# Altium footprint library VESC_6.4.PcbLib: 30 footprints (part 2 of 2)
Each footprint in its own frame and in the unit in brackets; x right, y up, seen from the top. Pads: shape width x height; smd on the part's side, far side on the other; paste and mask are expansions set on the pad; w line width, h text height; cw(c..) or ccw(c..) is an arc to the next point about the centre after c.
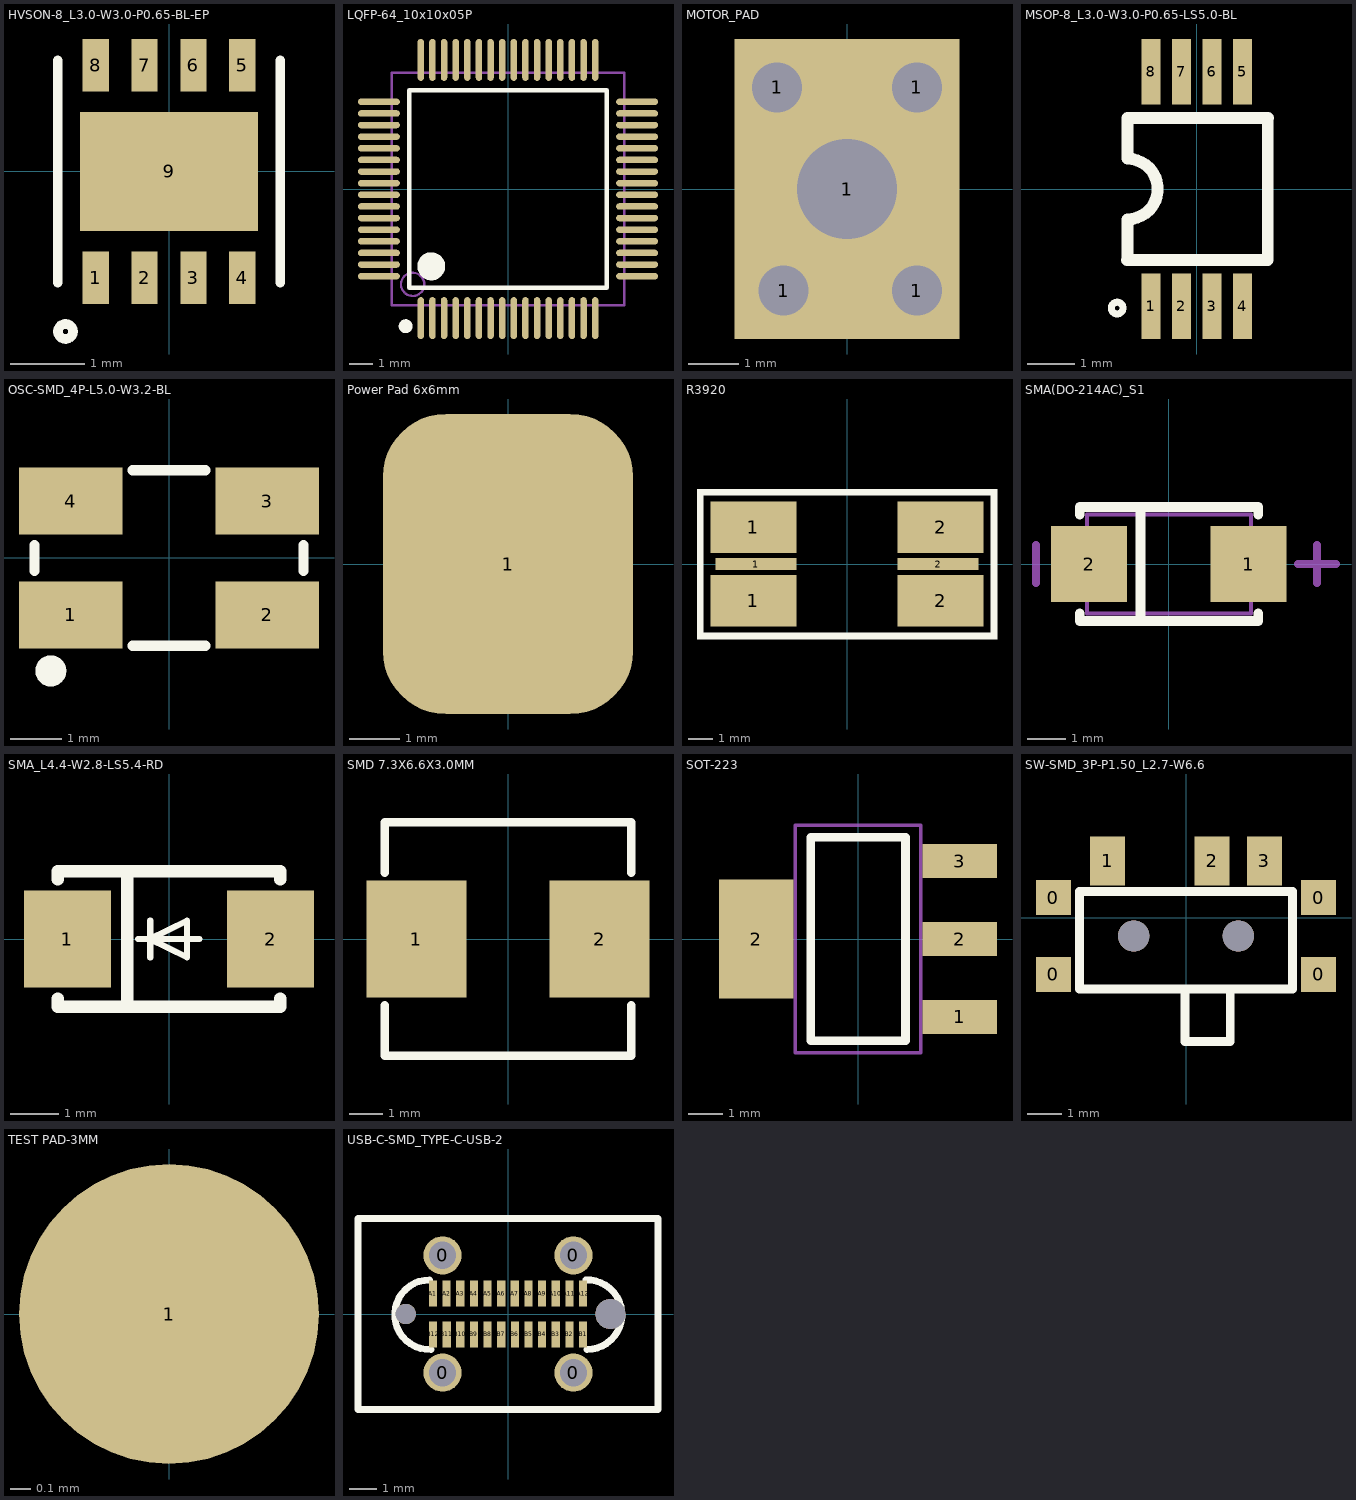
[diagram p1: the footprints below, top view; thin cyan lines are the x and y axes]

## HVSON-8_L3.0-W3.0-P0.65-BL-EP [mil]
pads (9):
  rect 14x28 smd: 1(-39,-56.4) 2(-13,-56.4) 3(13,-56.4) 4(39,-56.4) 5(39,56.4) 6(13,56.4) 7(-13,56.4) 8(-39,56.4)
  rect 94.49x62.99 smd: 9(0,0)
Top Overlay:
  circle w5.08: c-55,-85 r4
  lines w5.08: -59.05,-59.05 -59.05,59.05 ; 59.05,-59.05 59.05,59.05
3D body "User Library-HVSON-8.STEP": height 39.37, standoff 0, extent -58.66,-59.05 58.67,59.06

## LQFP-64_10x10x05P [mm]
pads (64):
  oval 0.28x1.8 smd mask+0.051: 1(-3.75,-5.55) 2(-3.25,-5.55) 3(-2.75,-5.55) 4(-2.25,-5.55) 5(-1.75,-5.55) 6(-1.25,-5.55) 7(-0.75,-5.55) 8(-0.25,-5.55) 9(0.25,-5.55) 10(0.75,-5.55) 11(1.25,-5.55) 12(1.75,-5.55) 13(2.25,-5.55) 14(2.75,-5.55) 15(3.25,-5.55) 16(3.75,-5.55) 33(3.75,5.55) 34(3.25,5.55) 35(2.75,5.55) 36(2.25,5.55) 37(1.75,5.55) 38(1.25,5.55) 39(0.75,5.55) 40(0.25,5.55) 41(-0.25,5.55) 42(-0.75,5.55) 43(-1.25,5.55) 44(-1.75,5.55) 45(-2.25,5.55) 46(-2.75,5.55) 47(-3.25,5.55) 48(-3.75,5.55)
  oval 1.8x0.28 smd mask+0.051: 17(5.55,-3.75) 18(5.55,-3.25) 19(5.55,-2.75) 20(5.55,-2.25) 21(5.55,-1.75) 22(5.55,-1.25) 23(5.55,-0.75) 24(5.55,-0.25) 25(5.55,0.25) 26(5.55,0.75) 27(5.55,1.25) 28(5.55,1.75) 29(5.55,2.25) 30(5.55,2.75) 31(5.55,3.25) 32(5.55,3.75) 49(-5.55,3.75) 50(-5.55,3.25) 51(-5.55,2.75) 52(-5.55,2.25) 53(-5.55,1.75) 54(-5.55,1.25) 55(-5.55,0.75) 56(-5.55,0.25) 57(-5.55,-0.25) 58(-5.55,-0.75) 59(-5.55,-1.25) 60(-5.55,-1.75) 61(-5.55,-2.25) 62(-5.55,-2.75) 63(-5.55,-3.25) 64(-5.55,-3.75)
Top Overlay:
  circle w0.3: c-4.4,-5.9 r0.15
  circle w0.6: c-3.3,-3.325 r0.3
  lines w0.2: -4.25,-4.25 4.25,-4.25 4.25,4.25 -4.25,4.25 -4.25,-4.25
Mechanical 13:
  circle w0.1: c-4.1,-4.1 r0.5
  lines w0.1: -5,-5 5,-5 5,5 -5,5 -5,-5
3D body "ST LQFP-64-10x10.STEP": height 1.6, standoff 0, extent -6.01,-6.01 6.01,6.01

## MOTOR_PAD [mil]
height 47.24
pads (5):
  round 60 hole 39.37: 1(-55,80) 1(-50,-80) 1(55,-80) 1(55,80)
  rect 177.17x236.22 hole 78.74: 1(0,0)

## MSOP-8_L3.0-W3.0-P0.65-LS5.0-BL [mil]
pads (8):
  rect 16x55 smd: 1(-38.39,-98.5) 2(-12.8,-98.5) 3(12.79,-98.5) 4(38.39,-98.5) 5(38.39,98.5) 6(12.79,98.5) 7(-12.8,98.5) 8(-38.39,98.5)
Top Overlay:
  lines w5.91: -66.76,-95.08 ccw(c-66.7,-100) -66.65,-95.08
  lines w10: -58.31,-59.5 59.8,-59.5 59.8,58.61 ; -58.2,-59.5 -58.2,-25.5 ccw(c-58.2,0) -58.2,25.5 -58.2,59.5 59.91,59.5
3D body "User Library-MSOP8.STEP": height 42.45, standoff -0.86, extent -61.02,-97.19 61.03,97.2

## OSC-SMD_4P-L5.0-W3.2-BL [mm]
pads (4):
  rect 2x1.3 smd: 1(-1.9,-1.1) 2(1.9,-1.1) 3(1.9,1.1) 4(-1.9,1.1)
Top Overlay:
  lines w0.2: -2.601,-0.249 -2.601,0.249 ; -0.701,-1.699 0.701,-1.699 ; -0.701,1.699 0.701,1.699 ; 2.601,-0.249 2.601,0.249
  lines w0.3: -2.286,-2.032 ccw(c-2.285,-2.182) -2.283,-2.032

## Power Pad 6x6mm [mm]
pads (1):
  rrect50% 5x6 smd: 1(0,0)

## R3920 [mm]
pads (6):
  rect 3.5x2.1 smd: 1(-3.8,-1.5) 1(-3.8,1.5) 2(3.8,-1.5) 2(3.8,1.5)
  rect 3.3x0.5 smd: 1(-3.7,0) 2(3.7,0)
Top Overlay:
  region: -6.096,3.048 -6.096,-3.048 -5.842,-3.048 -5.842,3.048 6.096,3.048 6.096,2.794 -5.842,2.794 -5.842,3.048
  region: 6.096,3.048 6.096,-3.048 5.842,-3.048 5.842,2.794
  region: 5.842,-3.048 -5.842,-3.048 -5.842,-2.794 5.842,-2.794
3D body "User Library-LRMAP3920.STEP": height 2, standoff 0, extent -5.46,-2.769 5.46,2.751

## SMA(DO-214AC)_S1 [mm]
pads (2):
  rect 2x2 smd: 1(2.1,0) 2(-2.1,0)
Top Overlay:
  lines w0.254: -2.35,-1.3 -2.35,-1.5 2.35,-1.5 2.35,-1.3 ; -2.35,1.3 -2.35,1.5 2.35,1.5 2.35,1.3 ; -0.75,-1.5 -0.75,1.5
Mechanical 13:
  lines w0.1: -2.16,-1.3 -2.16,1.3 2.16,1.3 2.16,-1.3 -2.16,-1.3
Mechanical 15:
  lines w0.203: -3.5,-0.5 -3.5,0.5 ; 3.4,0 4.4,0 ; 3.9,-0.5 3.9,0.5
3D body "User Library-DO-214AC SMA.STEP": height 1, standoff -1.4, extent -2.6,-1.3 2.6,1.3

## SMA_L4.4-W2.8-LS5.4-RD [mm]
pads (2):
  rect 1.8x2 smd: 1(-2.1,0) 2(2.1,0)
Top Overlay:
  lines w0.127: -0.643,0 0.627,0 ; -0.389,-0.381 -0.389,0 ; -0.389,0.381 -0.389,0 ; -0.389,0 0.373,-0.381 0.373,0 0.373,0.381 -0.389,0
  lines w0.254: -2.3,-1.231 -2.3,-1.4 2.3,-1.4 2.3,-1.231 ; -2.3,1.231 -2.3,1.4 2.3,1.4 2.3,1.231 ; -0.864,-1.4 -0.864,1.4
3D body "User Library-DO-214AC SMA.STEP": height 2.4, standoff 0, extent -2.608,-1.3 2.592,1.3

## SMD 7.3X6.6X3.0MM [mm]
pads (2):
  rect 3x3.5 smd: 1(-2.75,0) 2(2.75,0)
Top Overlay:
  lines w0.254: -3.7,-1.981 -3.7,-3.5 3.7,-3.5 3.7,-1.981 ; -3.7,1.981 -3.7,3.5 3.7,3.5 3.7,1.981
3D body "SMD-0630.STEP": height 3.05, standoff 0.02, extent -3.475,-3.3 3.475,3.3

## SOT-223 [mm]
pads (4):
  rect 2.2x1 smd: 1(3,-2.3) 2(3,0) 3(3,2.3)
  rect 2.2x3.5 smd: 2(-3,0)
Top Overlay:
  lines w0.254: -1.4,-3 1.4,-3 1.4,3 -1.4,3 -1.4,-3
Mechanical 13:
  lines w0.1: -1.85,-3.35 -1.85,3.35 1.85,3.35 1.85,-3.35 -1.85,-3.35
3D body "TO-223.STEP": height 1.64, standoff -0.04, extent -3.49,-3.242 3.49,3.243

## SW-SMD_3P-P1.50_L2.7-W6.6 [mm]
pads (9):
  rect 1x1 smd: 0(-3.8,-1.625) 0(-3.8,0.575) 0(3.8,-1.625) 0(3.8,0.575)
  rect 1x1.4 smd: 1(-2.25,1.625) 2(0.75,1.625) 3(2.25,1.625)
  round 0.9 hole 0.9 unplated: ""(-1.5,-0.525) ""(1.5,-0.525)
Top Overlay:
  lines w0.254: -3.048,-2.049 -3.048,0.745 3.048,0.745 3.048,-2.049 -3.048,-2.049 ; -0.03,-3.549 -0.03,-2.049 1.27,-2.049 1.27,-3.549 -0.03,-3.549
3D body "User Library-MSK-12.STEP": height 1.4, standoff -0.5, extent -3.9,-3.35 3.9,1.85

## TEST PAD-3MM [mm]
pads (1):
  round 1.5 smd: 1(0,0)

## USB-C-SMD_TYPE-C-USB-2 [mm]
pads (30):
  round 1.4 hole 1: 0(-2.401,-2.15) 0(-2.401,2.15) 0(2.399,-2.15) 0(2.399,2.15)
  rect 0.3x0.95 smd: A1(-2.751,0.75) A2(-2.251,0.75) A3(-1.751,0.75) A4(-1.251,0.75) A5(-0.751,0.75) A6(-0.251,0.75) A7(0.249,0.75) A8(0.749,0.75) A9(1.249,0.75) A10(1.749,0.75) A11(2.249,0.75) A12(2.749,0.75) B1(2.751,-0.752) B2(2.251,-0.752) B3(1.751,-0.752) B4(1.251,-0.752) B5(0.751,-0.752) B6(0.251,-0.752) B7(-0.249,-0.752) B8(-0.749,-0.752) B9(-1.249,-0.752) B10(-1.749,-0.752) B11(-2.249,-0.752) B12(-2.749,-0.752)
  round 0.75 hole 0.75 unplated: ""(-3.751,0)
  round 1.1 hole 1.1 unplated: ""(3.749,0.003)
Top Overlay:
  lines w0.254: -5.501,3.5 5.499,3.5 5.499,-3.5 ; -5.5,3.5 -5.5,-3.5 5.498,-3.5 ; -2.877,1.25 ccw(c-2.879,-0.026) -2.828,-1.3 ; 2.849,1.25 cw(c2.899,-0.025) 2.899,-1.3
3D body "Type C.x_t": height 7.35, standoff -1.36, extent -4.52,-2.3 4.52,2.3